# EAGLE library part SWITCH-DP3T (library Jordi)
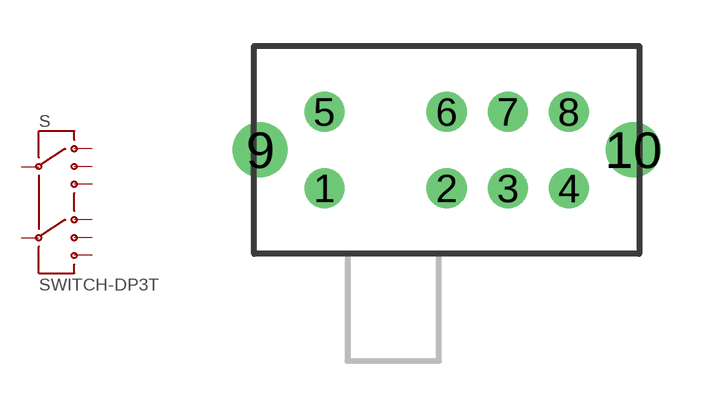
[diagram p6: symbol with the pads of SWITCH-SLIDE-PTH-DP3T-EG2315; footprint SWITCH-SLIDE-PTH-DP3T-EG2315]

Designator prefix S

## SWITCH-DP3TPTH  [SWITCH-SLIDE-PTH-DP3T-EG2315]
1  1  pas
2  2  pas
3  3  pas
4  4  pas
5  5  pas
6  6  pas
7  7  pas
8  8  pas

## Footprint SWITCH-SLIDE-PTH-DP3T-EG2315 (pad centres in mm)
Digikey Part <http://www.digikey.com/product-detail/en/EG2315/EG1913-ND/101778>
drill 0.8: 1 -4,-1.25; 2 0,-1.25; 3 2,-1.25; 4 4,-1.25; 5 -4,1.25; 6 0,1.25; 7 2,1.25; 8 4,1.25
drill 1.2: 9 -6.1,0; 10 6.1,0